# Altium schematic symbol library P Mos - SSM3J328R.SchLib: 1 symbol
Pins are listed as number, name and electrical type; pins without a type are passive.

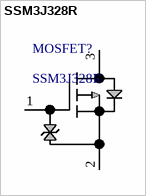
[diagram p0: symbol SSM3J328R]

## SSM3J328R
designator MOSFET?
No Description Available; Vendor: Toshiba; SourceLibrary: Toshiba_2018-12-14; Manufacturer_Part_Number: SSM3J328R; Copyright: Copyright (C) 2021 Accelerated Designs. All rights reserved; RefDes: RefDes; Type: DEV
footprint SOT-23F_TOS
footprint SOT-23F_TOS-M
pins: 1, 2, 3